# Altium schematic symbol library MEM2067-02-180-00-A.SchLib: 1 symbol
Pins are listed as number, name and electrical type; pins without a type are passive.

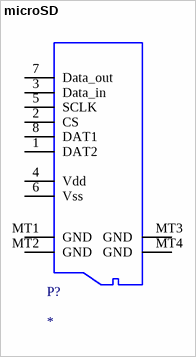
[diagram p0: symbol microSD]

## microSD
designator P?
MEM2067-02-180-00-A; link: https://www.mouser.es/ProductDetail/GCT/MEM2067-02-180-00-A?qs=sGAEpiMZZMv0NwlthflBi77zMX43LvoGRkntClKh4Bw%3D; datasheet: https://www.mouser.es/datasheet/2/837/MEM2067_spec-2327542.pdf; technical drawing: https://gct.co/files/drawings/mem2067.pdf
footprint microSD
pins: 1 DAT2, 2 CS, 3 Data_in, 4 Vdd, 5 SCLK, 6 Vss, 7 Data_out, 8 DAT1, MT1 GND, MT2 GND, MT3 GND, MT4 GND